# EAGLE library part 805-310/000-006 (library con-wago_805)
Stand: 01.01.2014. Die jeweils aktuellen Daten zu diesem Artikel finden Sie in unserem Produktkatalog, den Sie unter www.wago.com einsehen können. As of: 01/01/2014. Please find the newest data for this article in our product catalogue, which can be viewed under www.wago.com.
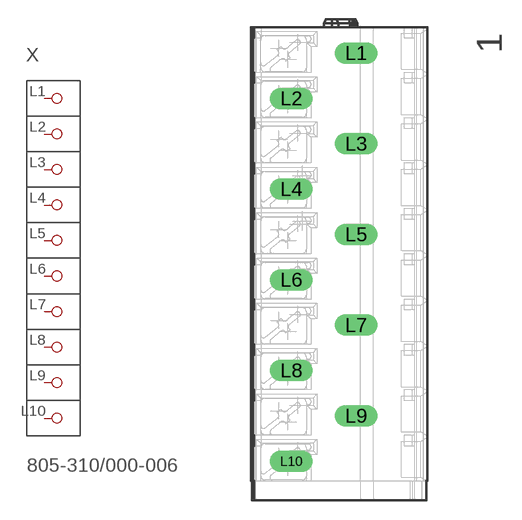
[diagram p61: symbol with the pads of P-805-310; footprint P-805-310]

Designator prefix X

## 805-310/000-006  [P-805-310]
L1  P1
L2  P2
L3  P3
L4  P4
L5  P5
L6  P6
L7  P7
L8  P8
L9  P9
L10  P10

## Footprint P-805-310 (pad centres in mm)
drill 1.1 long: L1 1.3,15.95; L2 -3.7,12.45; L3 1.3,8.95; L4 -3.7,5.45; L5 1.3,1.95; L6 -3.7,-1.55; L7 1.3,-5.05; L8 -3.7,-8.55; L9 1.3,-12.05; L10 -3.7,-15.55